# EAGLE library part EPCS1-4(ALTERA_CONFIG) (library QuantumOptics)
EPCS1 or EPCS4, Altera, FPGA serial configuration device.
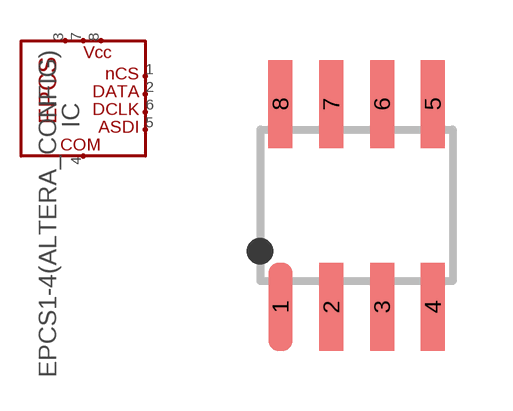
[diagram p41: symbol with the pads of SOIC-8; footprint SOIC-8]

Designator prefix IC

## EPCS1-4(ALTERA_CONFIG)  [SOIC-8]
1  NCS  in
2  DATA  out
3  VCC1  in
4  COM  in
5  ASDI  in
6  DCLK  in
7  VCC2  in
8  VCC3  in

## Footprint SOIC-8 (pad centres in mm)
SOIC-8 (a.k.a. SO-8), pads on 0.050" x 0.200" c-c spacing.
smd 0.6 x 2.2: 1 -1.27,-2.54; 2 0,-2.54; 3 1.27,-2.54; 4 2.54,-2.54; 5 2.54,2.54; 6 1.27,2.54; 7 0,2.54; 8 -1.27,2.54